# EAGLE library part JW5052C (library custom)
Buck Regulator Synchronous 4.5-18V 2A 700kHz 100uA 120mOhm
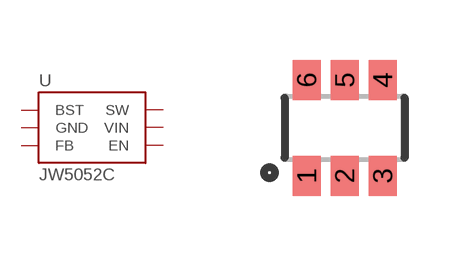
[diagram p154: symbol with the pads of SOT23-6; footprint SOT23-6]

Designator prefix U

## JW5052C  [SOT23-6]
1  BST
2  GND
3  FB
4  EN
5  VIN
6  SW

## Footprint SOT23-6 (pad centres in mm)
smd 0.7 x 1: 1 -0.95,-1.2; 2 0,-1.2; 3 0.95,-1.2; 4 0.95,1.2; 5 0,1.2; 6 -0.95,1.2